# Altium footprint library LFCSP.PcbLib: 2 footprints
Each footprint in its own frame and in the unit in brackets; x right, y up, seen from the top. Pads: shape width x height; smd on the part's side, far side on the other; paste and mask are expansions set on the pad; w line width, h text height; cw(c..) or ccw(c..) is an arc to the next point about the centre after c.
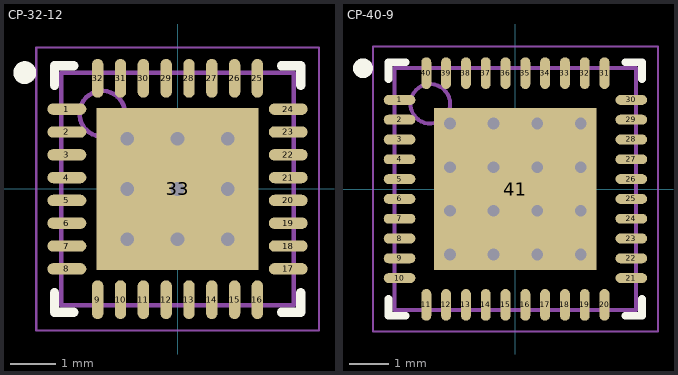
[diagram p0: the footprints below, top view; thin cyan lines are the x and y axes]

## CP-32-12 [mm] "32-Lead Lead Frame Chip Scale Package 5?5mm Body, Very Very Thin Quad  (CP-32-12)"
height 0.8
pads (33):
  oval 0.85x0.25 smd mask+0.05: 1(-2.425,1.75) 2(-2.425,1.25) 3(-2.425,0.75) 4(-2.425,0.25) 5(-2.425,-0.25) 6(-2.425,-0.75) 7(-2.425,-1.25) 8(-2.425,-1.75) 17(2.425,-1.75) 18(2.425,-1.25) 19(2.425,-0.75) 20(2.425,-0.25) 21(2.425,0.25) 22(2.425,0.75) 23(2.425,1.25) 24(2.425,1.75)
  oval 0.25x0.85 smd mask+0.05: 9(-1.75,-2.425) 10(-1.25,-2.425) 11(-0.75,-2.425) 12(-0.25,-2.425) 13(0.25,-2.425) 14(0.75,-2.425) 15(1.25,-2.425) 16(1.75,-2.425) 25(1.75,2.425) 26(1.25,2.425) 27(0.75,2.425) 28(0.25,2.425) 29(-0.25,2.425) 30(-0.75,2.425) 31(-1.25,2.425) 32(-1.75,2.425)
  rect 3.55x3.55 smd mask+0.05: 33(0,0)
via -1.1,1.1 diameter 0.6 hole 0.3
via 0,1.1 diameter 0.6 hole 0.3
via 1.1,1.1 diameter 0.6 hole 0.3
via -1.1,0 diameter 0.6 hole 0.3
via 0,0 diameter 0.6 hole 0.3
via 1.1,0 diameter 0.6 hole 0.3
via -1.1,-1.1 diameter 0.6 hole 0.3
via 0,-1.1 diameter 0.6 hole 0.3
via 1.1,-1.1 diameter 0.6 hole 0.3
Top Overlay:
  circle w0.25: c-3.35,2.55 r0.125
  lines w0.2: -2.7,-2.275 -2.7,-2.7 -2.275,-2.7 ; -2.7,2.275 -2.7,2.7 -2.275,2.7 ; 2.275,-2.7 2.7,-2.7 2.7,-2.275 ; 2.275,2.7 2.7,2.7 2.7,2.275
Mechanical 13:
  circle w0.1: c-1.65,1.65 r0.5
  lines w0.1: -2.55,-2.55 -2.55,2.55 2.55,2.55 2.55,-2.55 -2.55,-2.55
Mechanical 15:
  lines w0.05: -3.1,-3.1 -3.1,3.1 3.1,3.1 3.1,-3.1 -3.1,-3.1
  lines w0.1: -0.5,0 0.5,0 ; 0,-0.5 0,0.5
3D body "CP-32-12.step": height 0.8, standoff 0, extent -2.6,-2.6 2.6,2.6

## CP-40-9 [mm] "LFCSP, 40-Leads, Body 6.00x6.00mm, Pitch 0.50mm, Thermal Pad 4.10x4.10mm, IPC Medium Density"
height 0.8
pads (41):
  oval 0.8x0.25 smd mask+0.05: 1(-2.925,2.25) 2(-2.925,1.75) 3(-2.925,1.25) 4(-2.925,0.75) 5(-2.925,0.25) 6(-2.925,-0.25) 7(-2.925,-0.75) 8(-2.925,-1.25) 9(-2.925,-1.75) 10(-2.925,-2.25) 21(2.925,-2.25) 22(2.925,-1.75) 23(2.925,-1.25) 24(2.925,-0.75) 25(2.925,-0.25) 26(2.925,0.25) 27(2.925,0.75) 28(2.925,1.25) 29(2.925,1.75) 30(2.925,2.25)
  oval 0.25x0.8 smd mask+0.05: 11(-2.25,-2.925) 12(-1.75,-2.925) 13(-1.25,-2.925) 14(-0.75,-2.925) 15(-0.25,-2.925) 16(0.25,-2.925) 17(0.75,-2.925) 18(1.25,-2.925) 19(1.75,-2.925) 20(2.25,-2.925) 31(2.25,2.925) 32(1.75,2.925) 33(1.25,2.925) 34(0.75,2.925) 35(0.25,2.925) 36(-0.25,2.925) 37(-0.75,2.925) 38(-1.25,2.925) 39(-1.75,2.925) 40(-2.25,2.925)
  rect 4.1x4.1 smd mask+0.05: 41(0,0)
via 1.65,-1.65 diameter 0.7 hole 0.3
via 0.55,-1.65 diameter 0.7 hole 0.3
via -0.55,-1.65 diameter 0.7 hole 0.3
via -1.65,-1.65 diameter 0.7 hole 0.3
via 1.65,-0.55 diameter 0.7 hole 0.3
via 0.55,-0.55 diameter 0.7 hole 0.3
via -0.55,-0.55 diameter 0.7 hole 0.3
via -1.65,-0.55 diameter 0.7 hole 0.3
via 1.65,0.55 diameter 0.7 hole 0.3
via 0.55,0.55 diameter 0.7 hole 0.3
via -0.55,0.55 diameter 0.7 hole 0.3
via -1.65,0.55 diameter 0.7 hole 0.3
via 1.65,1.65 diameter 0.7 hole 0.3
via 0.55,1.65 diameter 0.7 hole 0.3
via -0.55,1.65 diameter 0.7 hole 0.3
via -1.65,1.65 diameter 0.7 hole 0.3
Top Overlay:
  circle w0.25: c-3.85,3.05 r0.125
  lines w0.2: -3.2,-2.775 -3.2,-3.2 -2.775,-3.2 ; -3.2,2.775 -3.2,3.2 -2.775,3.2 ; 2.775,-3.2 3.2,-3.2 3.2,-2.775 ; 2.775,3.2 3.2,3.2 3.2,2.775
Mechanical 13:
  circle w0.1: c-2.15,2.15 r0.5
  lines w0.1: -3.05,-3.05 3.05,-3.05 3.05,3.05 -3.05,3.05 -3.05,-3.05
Mechanical 15:
  lines w0.05: -3.6,-3.6 3.6,-3.6 3.6,3.6 -3.6,3.6 -3.6,-3.6
  lines w0.1: -0.5,0 0.5,0 ; 0,-0.5 0,0.5
3D body "CP-40-9.step": height 0.8, standoff 0, extent -3.07,-3.07 3.07,3.07